# EAGLE library part 691411710010 (library Wurth_Elektronik_Electromechanic_Terminal_Blocks_Connectors_rev15c)
WR-TBL Terminal block - serie 411 5,0mm - Spring clamp/Screw less - Horizontal entry - 10p Code:Con_TBL_Screwless_5.00_6914117100xxB_691411710010 <http://katalog.we-online.de/media/images/eican/Con_TBL_Screwless_5.00_6914117100xxB_pf2.jpg> Details see: http://katalog.we-online.de/en/em/691_411_710_0xx/691_411_710_010B?m Created 2014-12-22, aslant tao 2014 (C) Würth Elektronik
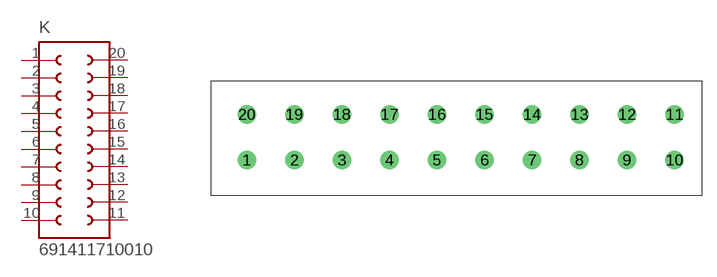
[diagram p309: symbol with the pads of 691411710010; footprint 691411710010]

Designator prefix K

## 691411710010  [691411710010]
1  1  pas
2  2  pas
3  3  pas
4  4  pas
5  5  pas
6  6  pas
7  7  pas
8  8  pas
9  9  pas
10  10  pas
11  11  pas
12  12  pas
13  13  pas
14  14  pas
15  15  pas
16  16  pas
17  17  pas
18  18  pas
19  19  pas
20  20  pas

## Footprint 691411710010 (pad centres in mm)
WR-TBL Serie 411 - 5.0mm Screwless Horizontal Entry - 2 mm2 Wires, 10 Pins
drill 1.3: 1 0,0; 2 5,0; 3 10,0; 4 15,0; 5 20,0; 6 25,0; 7 30,0; 8 35,0; 9 40,0; 10 45,0; 11 45,4.8; 12 40,4.8; 13 35,4.8; 14 30,4.8; 15 25,4.8; 16 20,4.8; 17 15,4.8; 18 10,4.8; 19 5,4.8; 20 0,4.8